# EAGLE library part SSRAM_A21_D36_BWE-? (library ic-RAM)
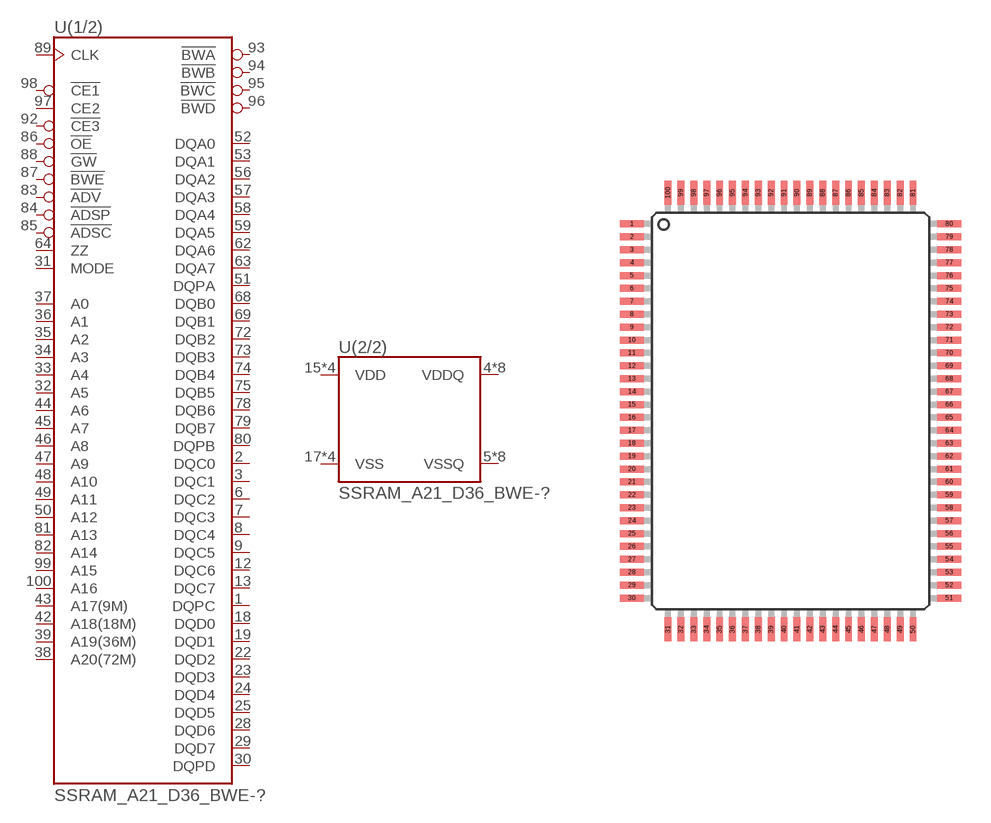
[diagram p3: symbol with the pads of QFP100-0.65; footprint QFP100-0.65]

Designator prefix U; gates (1/2)=SSRAM_A21_D36_BWE (2/2)=SSRAM_POWER

## SSRAM_A21_D36_BWE-QFP100  [QFP100-0.65]
1  (1/2):DQPC
2  (1/2):DQC0
3  (1/2):DQC1
4  (2/2):VDDQ
5  (2/2):VSSQ
6  (1/2):DQC2
7  (1/2):DQC3
8  (1/2):DQC4
9  (1/2):DQC5
10  (2/2):VSSQ
11  (2/2):VDDQ
12  (1/2):DQC6
13  (1/2):DQC7
15  (2/2):VDD
17  (2/2):VSS
18  (1/2):DQD0
19  (1/2):DQD1
20  (2/2):VDDQ
21  (2/2):VSSQ
22  (1/2):DQD2
23  (1/2):DQD3
24  (1/2):DQD4
25  (1/2):DQD5
26  (2/2):VSSQ
27  (2/2):VDDQ
28  (1/2):DQD6
29  (1/2):DQD7
30  (1/2):DQPD
31  (1/2):MODE
32  (1/2):A5
33  (1/2):A4
34  (1/2):A3
35  (1/2):A2
36  (1/2):A1
37  (1/2):A0
38  (1/2):A20(72M)
39  (1/2):A19(36M)
40  (2/2):VSS
41  (2/2):VDD
42  (1/2):A18(18M)
43  (1/2):A17(9M)
44  (1/2):A6
45  (1/2):A7
46  (1/2):A8
47  (1/2):A9
48  (1/2):A10
49  (1/2):A11
50  (1/2):A12
51  (1/2):DQPA
52  (1/2):DQA0
53  (1/2):DQA1
54  (2/2):VDDQ
55  (2/2):VSSQ
56  (1/2):DQA2
57  (1/2):DQA3
58  (1/2):DQA4
59  (1/2):DQA5
60  (2/2):VSSQ
61  (2/2):VDDQ
62  (1/2):DQA6
63  (1/2):DQA7
64  (1/2):ZZ
65  (2/2):VDD
67  (2/2):VSS
68  (1/2):DQB0
69  (1/2):DQB1
70  (2/2):VDDQ
71  (2/2):VSSQ
72  (1/2):DQB2
73  (1/2):DQB3
74  (1/2):DQB4
75  (1/2):DQB5
76  (2/2):VSSQ
77  (2/2):VDDQ
78  (1/2):DQB6
79  (1/2):DQB7
80  (1/2):DQPB
81  (1/2):A13
82  (1/2):A14
83  (1/2):!ADV
84  (1/2):!ADSP
85  (1/2):!ADSC
86  (1/2):!OE
87  (1/2):!BWE
88  (1/2):!GW
89  (1/2):CLK
90  (2/2):VSS
91  (2/2):VDD
92  (1/2):!CE3
93  (1/2):!BWA
94  (1/2):!BWB
95  (1/2):!BWC
96  (1/2):!BWD
97  (1/2):CE2
98  (1/2):!CE1
99  (1/2):A15
100  (1/2):A16

## Footprint QFP100-0.65 (pad centres in mm)
smd 1.2 x 0.35: 1 -8,9.425; 2 -8,8.775; 3 -8,8.125; 4 -8,7.475; 5 -8,6.825; 6 -8,6.175; 7 -8,5.525; 8 -8,4.875; 9 -8,4.225; 10 -8,3.575; 11 -8,2.925; 12 -8,2.275; 13 -8,1.625; 14 -8,0.975; 15 -8,0.325; 16 -8,-0.325; 17 -8,-0.975; 18 -8,-1.625; 19 -8,-2.275; 20 -8,-2.925; 21 -8,-3.575; 22 -8,-4.225; 23 -8,-4.875; 24 -8,-5.525; 25 -8,-6.175; 26 -8,-6.825; 27 -8,-7.475; 28 -8,-8.125; 29 -8,-8.775; 30 -8,-9.425; 51 8,-9.425; 52 8,-8.775; 53 8,-8.125; 54 8,-7.475; 55 8,-6.825; 56 8,-6.175; 57 8,-5.525; 58 8,-4.875; 59 8,-4.225; 60 8,-3.575; 61 8,-2.925; 62 8,-2.275; 63 8,-1.625; 64 8,-0.975; 65 8,-0.325; 66 8,0.325; 67 8,0.975; 68 8,1.625; 69 8,2.275; 70 8,2.925; 71 8,3.575; 72 8,4.225; 73 8,4.875; 74 8,5.525; 75 8,6.175; 76 8,6.825; 77 8,7.475; 78 8,8.125; 79 8,8.775; 80 8,9.425
smd 0.35 x 1.2: 31 -6.175,-11; 32 -5.525,-11; 33 -4.875,-11; 34 -4.225,-11; 35 -3.575,-11; 36 -2.925,-11; 37 -2.275,-11; 38 -1.625,-11; 39 -0.975,-11; 40 -0.325,-11; 41 0.325,-11; 42 0.975,-11; 43 1.625,-11; 44 2.275,-11; 45 2.925,-11; 46 3.575,-11; 47 4.225,-11; 48 4.875,-11; 49 5.525,-11; 50 6.175,-11; 81 6.175,11; 82 5.525,11; 83 4.875,11; 84 4.225,11; 85 3.575,11; 86 2.925,11; 87 2.275,11; 88 1.625,11; 89 0.975,11; 90 0.325,11; 91 -0.325,11; 92 -0.975,11; 93 -1.625,11; 94 -2.275,11; 95 -2.925,11; 96 -3.575,11; 97 -4.225,11; 98 -4.875,11; 99 -5.525,11; 100 -6.175,11